# EAGLE library part FRIEND (library hw6_lib)
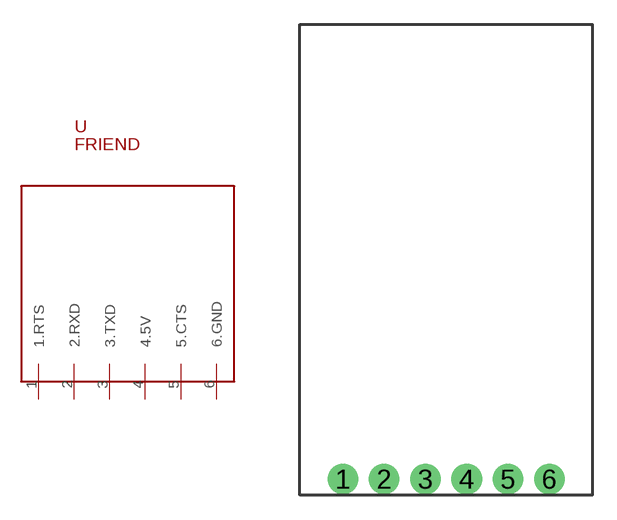
[diagram p12: symbol with the pads of FRIEND; footprint FRIEND]

Designator prefix -

## FRIEND  [FRIEND]
1  1.RTS
2  2.RXD
3  3.TXD
4  4.5V
5  5.CTS
6  6.GND

## Footprint FRIEND (pad centres in mm)
drill 1.016 pad 1.88: 1 -6.35,0; 2 -3.81,0; 3 -1.27,0; 4 1.27,0; 5 3.81,0; 6 6.35,0